# Altium schematic symbol library AD8217_DT.SchLib: 1 symbol
Pins are listed as number, name and electrical type; pins without a type are passive.

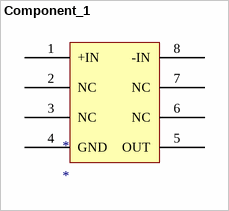
[diagram p0: symbol Component_1]

## Component_1
designator *
footprint AD8217_DT (MSOP, 8-Leads, 3.00mm x 3.00mm)
pins: 1 +IN, 2 NC, 3 NC, 4 GND, 5 OUT, 6 NC, 7 NC, 8 -IN